# Altium footprint library QFN40P140X180X50-10N.PcbLib: 1 footprints
Each footprint in its own frame and in the unit in brackets; x right, y up, seen from the top. Pads: shape width x height; smd on the part's side, far side on the other; paste and mask are expansions set on the pad; w line width, h text height; cw(c..) or ccw(c..) is an arc to the next point about the centre after c.
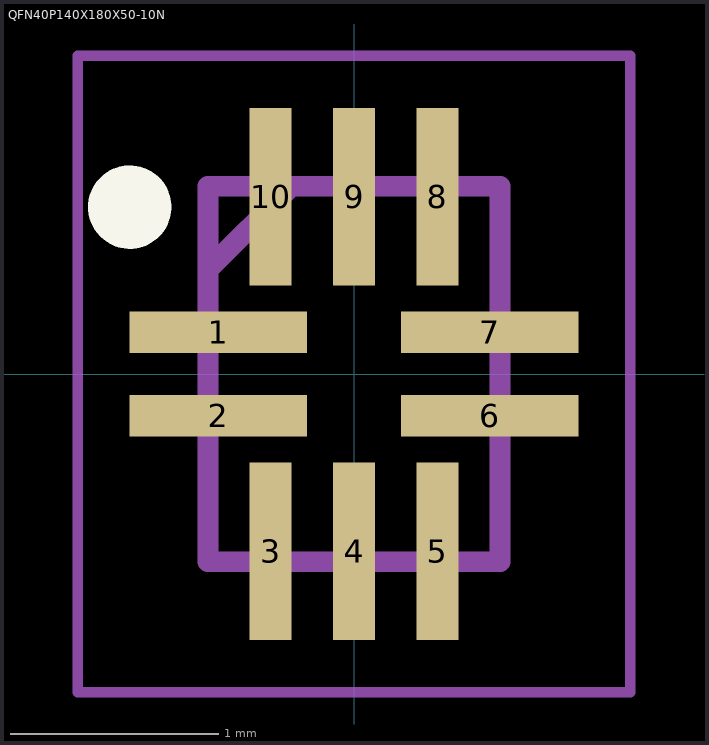
[diagram p0: the footprint, top view; thin cyan lines are the x and y axes]

## QFN40P140X180X50-10N [mm]
pads (10):
  rect 0.85x0.2 smd: 1(-0.65,0.2) 2(-0.65,-0.2) 6(0.65,-0.2) 7(0.65,0.2)
  rect 0.2x0.85 smd: 3(-0.4,-0.85) 4(0,-0.85) 5(0.4,-0.85) 8(0.4,0.85) 9(0,0.85) 10(-0.4,0.85)
Top Overlay:
  circle w0.2: c-1.075,0.8 r0.1
Mechanical 15:
  lines w0.1: -0.7,0.5 -0.3,0.9 ; -0.7,-0.9 0.7,-0.9 0.7,0.9 -0.7,0.9 -0.7,-0.9
Mechanical 20:
  lines w0.05: -1.325,-1.525 1.325,-1.525 1.325,1.525 -1.325,1.525 -1.325,-1.525